# Altium footprint library TPD4E1B06_2nd_fixed.PcbLib: 1 footprints
Each footprint in its own frame and in the unit in brackets; x right, y up, seen from the top. Pads: shape width x height; smd on the part's side, far side on the other; paste and mask are expansions set on the pad; w line width, h text height; cw(c..) or ccw(c..) is an arc to the next point about the centre after c.
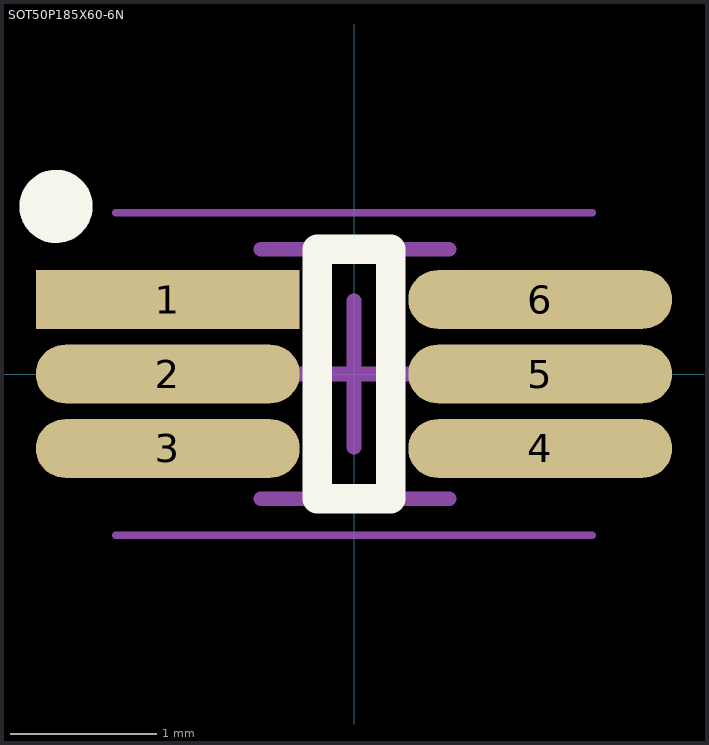
[diagram p0: the footprint, top view; thin cyan lines are the x and y axes]

## SOT50P185X60-6N [mm] "SOT23, 6-Leads, Body 1.60x1.85mm, Pitch 0.50mm, IPC Medium Density"
height 0.6
pads (6):
  rect 1.8x0.4 smd: 1(-1.27,0.508)
  oval 1.8x0.4 smd: 2(-1.27,0) 3(-1.27,-0.508) 4(1.27,-0.508) 5(1.27,0) 6(1.27,0.508)
Top Overlay:
  circle w0.25: c-2.032,1.143 r0.125
  lines w0.2: -0.25,-0.85 0.25,-0.85 0.25,0.85 -0.25,0.85 -0.25,-0.85
Mechanical 13:
  lines w0.1: -0.635,-0.85 0.65,-0.85 ; -0.635,0.85 0.65,0.85
Mechanical 15:
  lines w0.05: -1.625,-1.1 1.625,-1.1 ; -1.625,1.1 1.625,1.1
  lines w0.1: -0.5,0 0.5,0 ; 0,-0.5 0,0.5
3D body: height 0.6, standoff 0.05, extent -0.65,-0.85 0.65,0.85